# Altium footprint library SCMR22L105SRBB0.PcbLib: 1 footprints
Each footprint in its own frame and in the unit in brackets; x right, y up, seen from the top. Pads: shape width x height; smd on the part's side, far side on the other; paste and mask are expansions set on the pad; w line width, h text height; cw(c..) or ccw(c..) is an arc to the next point about the centre after c.
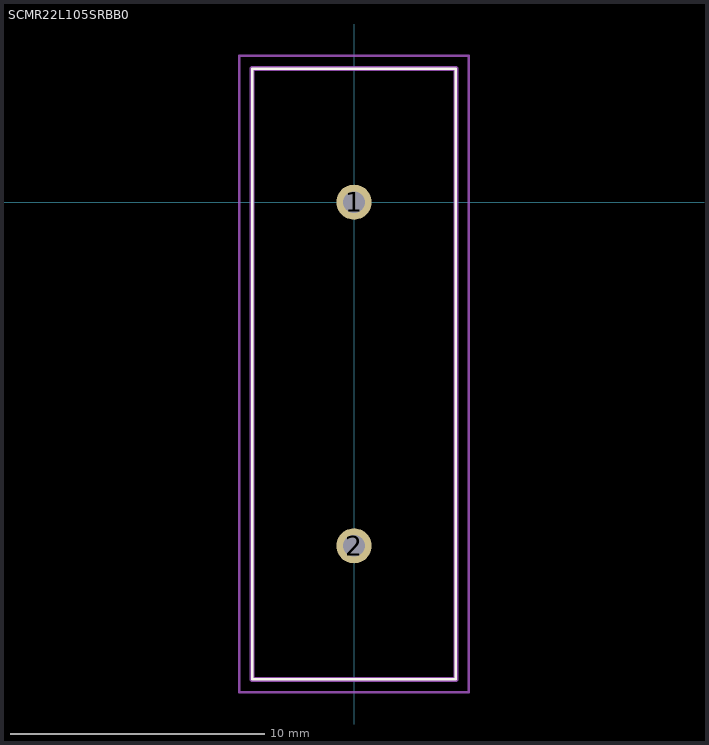
[diagram p0: the footprint, top view; thin cyan lines are the x and y axes]

## SCMR22L105SRBB0 [mm]
pads (2):
  round 1.381 hole 0.85: 1(0,0) 2(0,-13.5)
Top Overlay:
  lines w0.1: -4,-18.75 4,-18.75 4,5.25 -4,5.25 -4,-18.75
Mechanical 15:
  lines w0.2: -4,-18.75 4,-18.75 4,5.25 -4,5.25 -4,-18.75
Mechanical 20:
  lines w0.1: -4.5,-19.25 4.5,-19.25 4.5,5.75 -4.5,5.75 -4.5,-19.25